# EAGLE library part PIC24HJ128GP502_ (library PIC24HJ128GP502DIP)
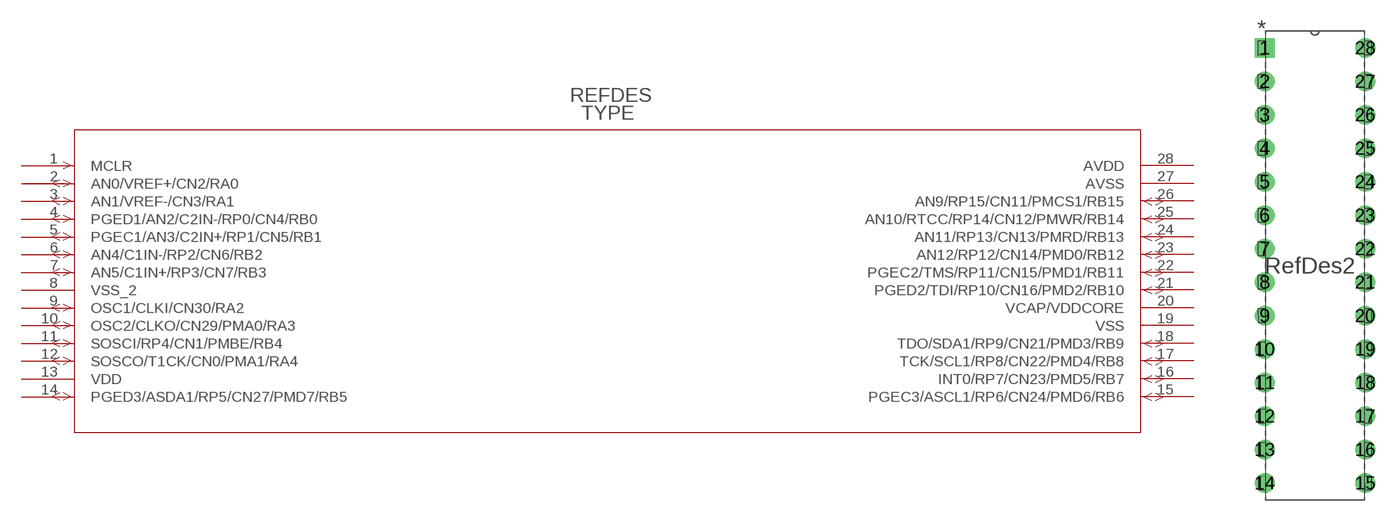
[diagram p0: symbol with the pads of SPDIP28_300MC; footprint SPDIP28_300MC]

Designator prefix -

## PIC24HJ128GP502_  [SPDIP28_300MC]
1  MCLR  pas
2  AN0/VREF+/CN2/RA0  pas
3  AN1/VREF-/CN3/RA1  pas
4  PGED1/AN2/C2IN-/RP0/CN4/RB0  pas
5  PGEC1/AN3/C2IN+/RP1/CN5/RB1  pas
6  AN4/C1IN-/RP2/CN6/RB2  pas
7  AN5/C1IN+/RP3/CN7/RB3  pas
8  VSS_2  pas
9  OSC1/CLKI/CN30/RA2  pas
10  OSC2/CLKO/CN29/PMA0/RA3  pas
11  SOSCI/RP4/CN1/PMBE/RB4  pas
12  SOSCO/T1CK/CN0/PMA1/RA4  pas
13  VDD  pas
14  PGED3/ASDA1/RP5/CN27/PMD7/RB5  pas
15  PGEC3/ASCL1/RP6/CN24/PMD6/RB6  pas
16  INT0/RP7/CN23/PMD5/RB7  pas
17  TCK/SCL1/RP8/CN22/PMD4/RB8  pas
18  TDO/SDA1/RP9/CN21/PMD3/RB9  pas
19  VSS  pas
20  VCAP/VDDCORE  pas
21  PGED2/TDI/RP10/CN16/PMD2/RB10  pas
22  PGEC2/TMS/RP11/CN15/PMD1/RB11  pas
23  AN12/RP12/CN14/PMD0/RB12  pas
24  AN11/RP13/CN13/PMRD/RB13  pas
25  AN10/RTCC/RP14/CN12/PMWR/RB14  pas
26  AN9/RP15/CN11/PMCS1/RB15  pas
27  AVSS  pas
28  AVDD  pas

## Footprint SPDIP28_300MC (pad centres in mm)
drill 0.991 square: 1 -7.62,33.02
drill 0.991: 2 -7.62,30.48; 3 -7.62,27.94; 4 -7.62,25.4; 5 -7.62,22.86; 6 -7.62,20.32; 7 -7.62,17.78; 8 -7.62,15.24; 9 -7.62,12.7; 10 -7.62,10.16; 11 -7.62,7.62; 12 -7.62,5.08; 13 -7.62,2.54; 14 -7.62,0; 15 0,0; 16 0,2.54; 17 0,5.08; 18 0,7.62; 19 0,10.16; 20 0,12.7; 21 0,15.24; 22 0,17.78; 23 0,20.32; 24 0,22.86; 25 0,25.4; 26 0,27.94; 27 0,30.48; 28 0,33.02